# Altium integrated library ISSI SRAM Synchronous SRAM No-Wait(ZBT).IntLib: 1246 symbols (part 107 of 152)
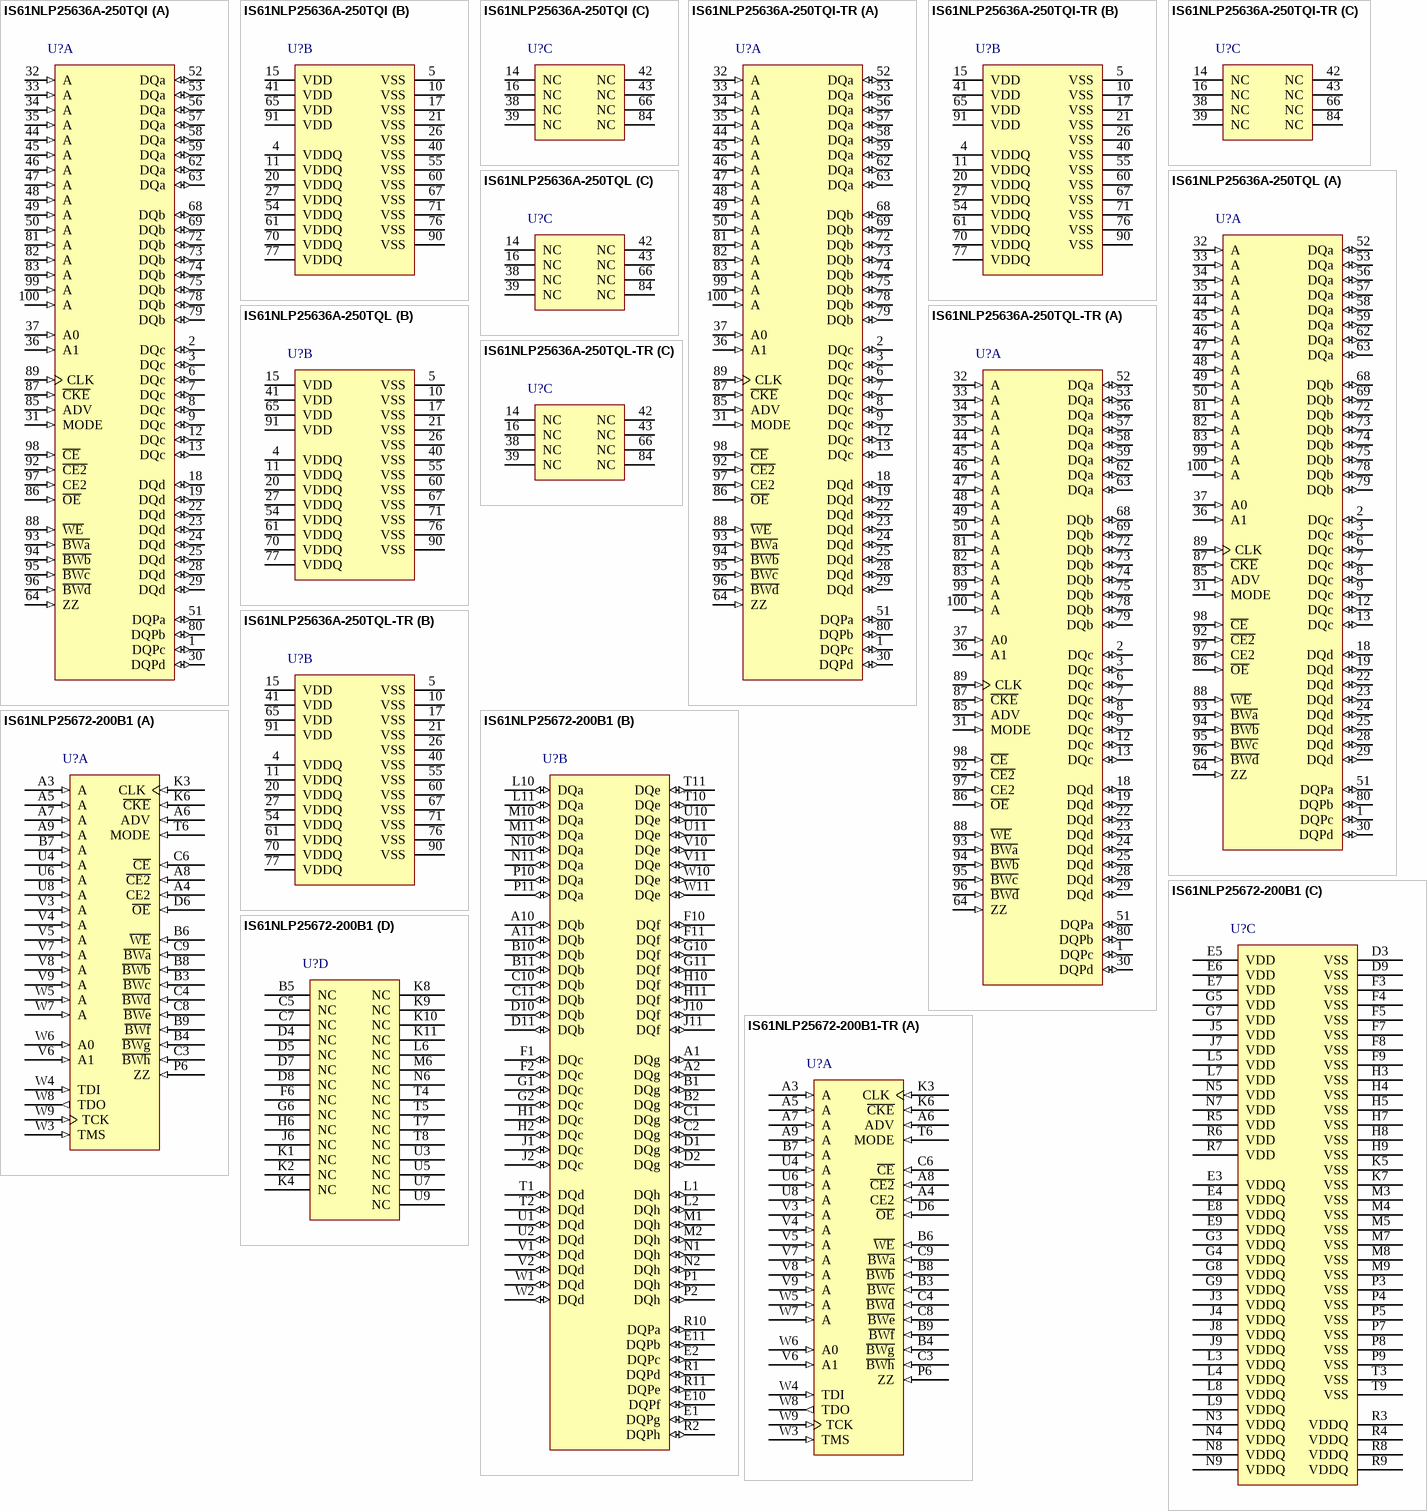
[diagram p292: symbols IS61NLP25636A-250TQI to IS61NLP25672-200B1-TR]

## IS61NLP25672-200B1
designator U?
18 M Pipeline 'No Wait' State Bus SRAM, 256 K x 72, 0 to 70 degC, 209-Pin BGA (LF-BGA-209); Manufacturer: Integrated Silicon Solution Inc (ISSI); PartNumber: IS61NLP25672-200B1; Density: 18M; Packing: Tube / Tray; Vcc: 3.3 V; VccQ: 2.5 / 3.3 V; DatasheetVersion: Rev. O; PackageVersion: Rev. B, 12/2007; PackageReference: LF-BGA-209; PackageDescription: 209-Pin 14 x 22 mm LF-BGA, Pitch 1 mm; Supplier 1: Digi-Key; Supplier Part Number 1: IS61NLP25672-200B1-ND; Supplier 2: Mouser; Supplier Part Number 2: 870IS61NLP25672200B1; Organization: 256Kx72; Mounting Technology: Surface Mount; ComponentLink1Description: Manufacturer URL; ComponentLink1URL: http://www.issi.com/US/index.shtml; ComponentLink2Description: Datasheet; ComponentLink2URL: http://www.issi.com/WW/pdf/61NLP_NVP25672_51236_102418.pdf; ComponentLink3Description: Package Specification; ComponentLink3URL: http://www.issi.com/WW/pdf/61NLF_NVF25672_51236_102418.pdf
footprint ISSI-LF-BGA-209-14000X22000DE (BGA, 209-Balls, Body 22x14mm, Pitch 1mm)
part A pins: A3 A (in) "Synchronous Address Input", A4 CE2 (in) "Synchronous Chip Enable", A5 A (in) "Synchronous Address Input", A6 ADV (in) "Synchronous Burst Address Advance", A7 A (in) "Synchronous Address Input", A8 ~{CE2} (in) "Synchronous Chip Enable", A9 A (in) "Synchronous Address Input", B3 ~{BWc} (in) "Synchronous Byte Write Enable", B4 ~{BWg} (in) "Synchronous Byte Write Enable", B6 ~{WE} (in) "Write Enable", B7 A (in) "Synchronous Address Input", B8 ~{BWb} (in) "Synchronous Byte Write Enable", B9 ~{BWf} (in) "Synchronous Byte Write Enable", C3 ~{BWh} (in) "Synchronous Byte Write Enable", C4 ~{BWd} (in) "Synchronous Byte Write Enable", C6 ~{CE} (in) "Synchronous Chip Enable", C8 ~{BWe} (in) "Synchronous Byte Write Enable", C9 ~{BWa} (in) "Synchronous Byte Write Enable", D6 ~{OE} (in) "Output Enable", K3 CLK (in) "Synchronous Clock", K6 ~{CKE} (in) "Clock Enable", P6 ZZ (in) "Snooze Enable", T6 MODE (in) "Burst Sequence Selection", U4 A (in) "Synchronous Address Input", U6 A (in) "Synchronous Address Input", U8 A (in) "Synchronous Address Input", V3 A (in) "Synchronous Address Input", V4 A (in) "Synchronous Address Input", V5 A (in) "Synchronous Address Input", V6 A1 (in) "Synchronous Address Input. This pin must tied to the two LSBs of the address bus.", V7 A (in) "Synchronous Address Input", V8 A (in) "Synchronous Address Input", V9 A (in) "Synchronous Address Input", W3 TMS (in) "JTAG Pin", W4 TDI (in) "JTAG Pin", W5 A (in) "Synchronous Address Input", W6 A0 (in) "Synchronous Address Input. This pin must tied to the two LSBs of the address bus.", W7 A (in) "Synchronous Address Input", W8 TDO (out) "JTAG Pin", W9 TCK (in) "JTAG Pin"
part B pins: A1 DQg (io) "Synchronous Data Input/Output", A2 DQg (io) "Synchronous Data Input/Output", A10 DQb (io) "Synchronous Data Input/Output", A11 DQb (io) "Synchronous Data Input/Output", B1 DQg (io) "Synchronous Data Input/Output", B2 DQg (io) "Synchronous Data Input/Output", B10 DQb (io) "Synchronous Data Input/Output", B11 DQb (io) "Synchronous Data Input/Output", C1 DQg (io) "Synchronous Data Input/Output", C2 DQg (io) "Synchronous Data Input/Output", C10 DQb (io) "Synchronous Data Input/Output", C11 DQb (io) "Synchronous Data Input/Output", D1 DQg (io) "Synchronous Data Input/Output", D2 DQg (io) "Synchronous Data Input/Output", D10 DQb (io) "Synchronous Data Input/Output", D11 DQb (io) "Synchronous Data Input/Output", E1 DQPg (io) "Parity Data I/O", E2 DQPc (io) "Parity Data I/O", E10 DQPf (io) "Parity Data I/O", E11 DQPb (io) "Parity Data I/O", F1 DQc (io) "Synchronous Data Input/Output", F2 DQc (io) "Synchronous Data Input/Output", F10 DQf (io) "Synchronous Data Input/Output", F11 DQf (io) "Synchronous Data Input/Output", G1 DQc (io) "Synchronous Data Input/Output", G2 DQc (io) "Synchronous Data Input/Output", G10 DQf (io) "Synchronous Data Input/Output", G11 DQf (io) "Synchronous Data Input/Output", H1 DQc (io) "Synchronous Data Input/Output", H2 DQc (io) "Synchronous Data Input/Output", H10 DQf (io) "Synchronous Data Input/Output", H11 DQf (io) "Synchronous Data Input/Output", J1 DQc (io) "Synchronous Data Input/Output", J2 DQc (io) "Synchronous Data Input/Output", J10 DQf (io) "Synchronous Data Input/Output", J11 DQf (io) "Synchronous Data Input/Output", L1 DQh (io) "Synchronous Data Input/Output", L2 DQh (io) "Synchronous Data Input/Output", L10 DQa (io) "Synchronous Data Input/Output", L11 DQa (io) "Synchronous Data Input/Output", M1 DQh (io) "Synchronous Data Input/Output", M2 DQh (io) "Synchronous Data Input/Output", M10 DQa (io) "Synchronous Data Input/Output", M11 DQa (io) "Synchronous Data Input/Output", N1 DQh (io) "Synchronous Data Input/Output", N2 DQh (io) "Synchronous Data Input/Output", N10 DQa (io) "Synchronous Data Input/Output", N11 DQa (io) "Synchronous Data Input/Output", P1 DQh (io) "Synchronous Data Input/Output", P2 DQh (io) "Synchronous Data Input/Output", P10 DQa (io) "Synchronous Data Input/Output", P11 DQa (io) "Synchronous Data Input/Output", R1 DQPd (io) "Parity Data I/O", R2 DQPh (io) "Parity Data I/O", R10 DQPa (io) "Parity Data I/O", R11 DQPe (io) "Parity Data I/O", T1 DQd (io) "Synchronous Data Input/Output", T2 DQd (io) "Synchronous Data Input/Output", T10 DQe (io) "Synchronous Data Input/Output", T11 DQe (io) "Synchronous Data Input/Output", U1 DQd (io) "Synchronous Data Input/Output", U2 DQd (io) "Synchronous Data Input/Output", U10 DQe (io) "Synchronous Data Input/Output", U11 DQe (io) "Synchronous Data Input/Output", V1 DQd (io) "Synchronous Data Input/Output", V2 DQd (io) "Synchronous Data Input/Output", V10 DQe (io) "Synchronous Data Input/Output", V11 DQe (io) "Synchronous Data Input/Output", W1 DQd (io) "Synchronous Data Input/Output", W2 DQd (io) "Synchronous Data Input/Output", W10 DQe (io) "Synchronous Data Input/Output", W11 DQe (io) "Synchronous Data Input/Output"
part C pins: D3 VSS (power) "Ground", D9 VSS (power) "Ground", E3 VDDQ (power) "Isolated Output Buffer Supply: 3.3V/2.5V", E4 VDDQ (power) "Isolated Output Buffer Supply: 3.3V/2.5V", E5 VDD (power) "3.3V/2.5V Power Supply", E6 VDD (power) "3.3V/2.5V Power Supply", E7 VDD (power) "3.3V/2.5V Power Supply", E8 VDDQ (power) "Isolated Output Buffer Supply: 3.3V/2.5V", E9 VDDQ (power) "Isolated Output Buffer Supply: 3.3V/2.5V", F3 VSS (power) "Ground", F4 VSS (power) "Ground", F5 VSS (power) "Ground", F7 VSS (power) "Ground", F8 VSS (power) "Ground", F9 VSS (power) "Ground", G3 VDDQ (power) "Isolated Output Buffer Supply: 3.3V/2.5V", G4 VDDQ (power) "Isolated Output Buffer Supply: 3.3V/2.5V", G5 VDD (power) "3.3V/2.5V Power Supply", G7 VDD (power) "3.3V/2.5V Power Supply", G8 VDDQ (power) "Isolated Output Buffer Supply: 3.3V/2.5V", G9 VDDQ (power) "Isolated Output Buffer Supply: 3.3V/2.5V", H3 VSS (power) "Ground", H4 VSS (power) "Ground", H5 VSS (power) "Ground", H7 VSS (power) "Ground", H8 VSS (power) "Ground", H9 VSS (power) "Ground", J3 VDDQ (power) "Isolated Output Buffer Supply: 3.3V/2.5V", J4 VDDQ (power) "Isolated Output Buffer Supply: 3.3V/2.5V", J5 VDD (power) "3.3V/2.5V Power Supply", J7 VDD (power) "3.3V/2.5V Power Supply", J8 VDDQ (power) "Isolated Output Buffer Supply: 3.3V/2.5V", J9 VDDQ (power) "Isolated Output Buffer Supply: 3.3V/2.5V", K5 VSS (power) "Ground", K7 VSS (power) "Ground", L3 VDDQ (power) "Isolated Output Buffer Supply: 3.3V/2.5V", L4 VDDQ (power) "Isolated Output Buffer Supply: 3.3V/2.5V", L5 VDD (power) "3.3V/2.5V Power Supply", L7 VDD (power) "3.3V/2.5V Power Supply", L8 VDDQ (power) "Isolated Output Buffer Supply: 3.3V/2.5V", L9 VDDQ (power) "Isolated Output Buffer Supply: 3.3V/2.5V", M3 VSS (power) "Ground", M4 VSS (power) "Ground", M5 VSS (power) "Ground", M7 VSS (power) "Ground", M8 VSS (power) "Ground", M9 VSS (power) "Ground", N3 VDDQ (power) "Isolated Output Buffer Supply: 3.3V/2.5V", N4 VDDQ (power) "Isolated Output Buffer Supply: 3.3V/2.5V", N5 VDD (power) "3.3V/2.5V Power Supply", N7 VDD (power) "3.3V/2.5V Power Supply", N8 VDDQ (power) "Isolated Output Buffer Supply: 3.3V/2.5V", N9 VDDQ (power) "Isolated Output Buffer Supply: 3.3V/2.5V", P3 VSS (power) "Ground", P4 VSS (power) "Ground", P5 VSS (power) "Ground", P7 VSS (power) "Ground", P8 VSS (power) "Ground", P9 VSS (power) "Ground", R3 VDDQ (power) "Isolated Output Buffer Supply: 3.3V/2.5V", R4 VDDQ (power) "Isolated Output Buffer Supply: 3.3V/2.5V", R5 VDD (power) "3.3V/2.5V Power Supply", R6 VDD (power) "3.3V/2.5V Power Supply", R7 VDD (power) "3.3V/2.5V Power Supply", R8 VDDQ (power) "Isolated Output Buffer Supply: 3.3V/2.5V", R9 VDDQ (power) "Isolated Output Buffer Supply: 3.3V/2.5V", T3 VSS (power) "Ground", T9 VSS (power) "Ground"
part D pins: B5 NC "not connect", C5 NC "not connect", C7 NC "not connect", D4 NC "not connect", D5 NC "not connect", D7 NC "not connect", D8 NC "not connect", F6 NC "not connect", G6 NC "not connect", H6 NC "not connect", J6 NC "not connect", K1 NC "not connect", K2 NC "not connect", K4 NC "not connect", K8 NC "not connect", K9 NC "not connect", K10 NC "not connect", K11 NC "not connect", L6 NC "not connect", M6 NC "not connect", N6 NC "not connect", T4 NC "not connect", T5 NC "not connect", T7 NC "not connect", T8 NC "not connect", U3 NC "not connect", U5 NC "not connect", U7 NC "not connect", U9 NC "not connect"

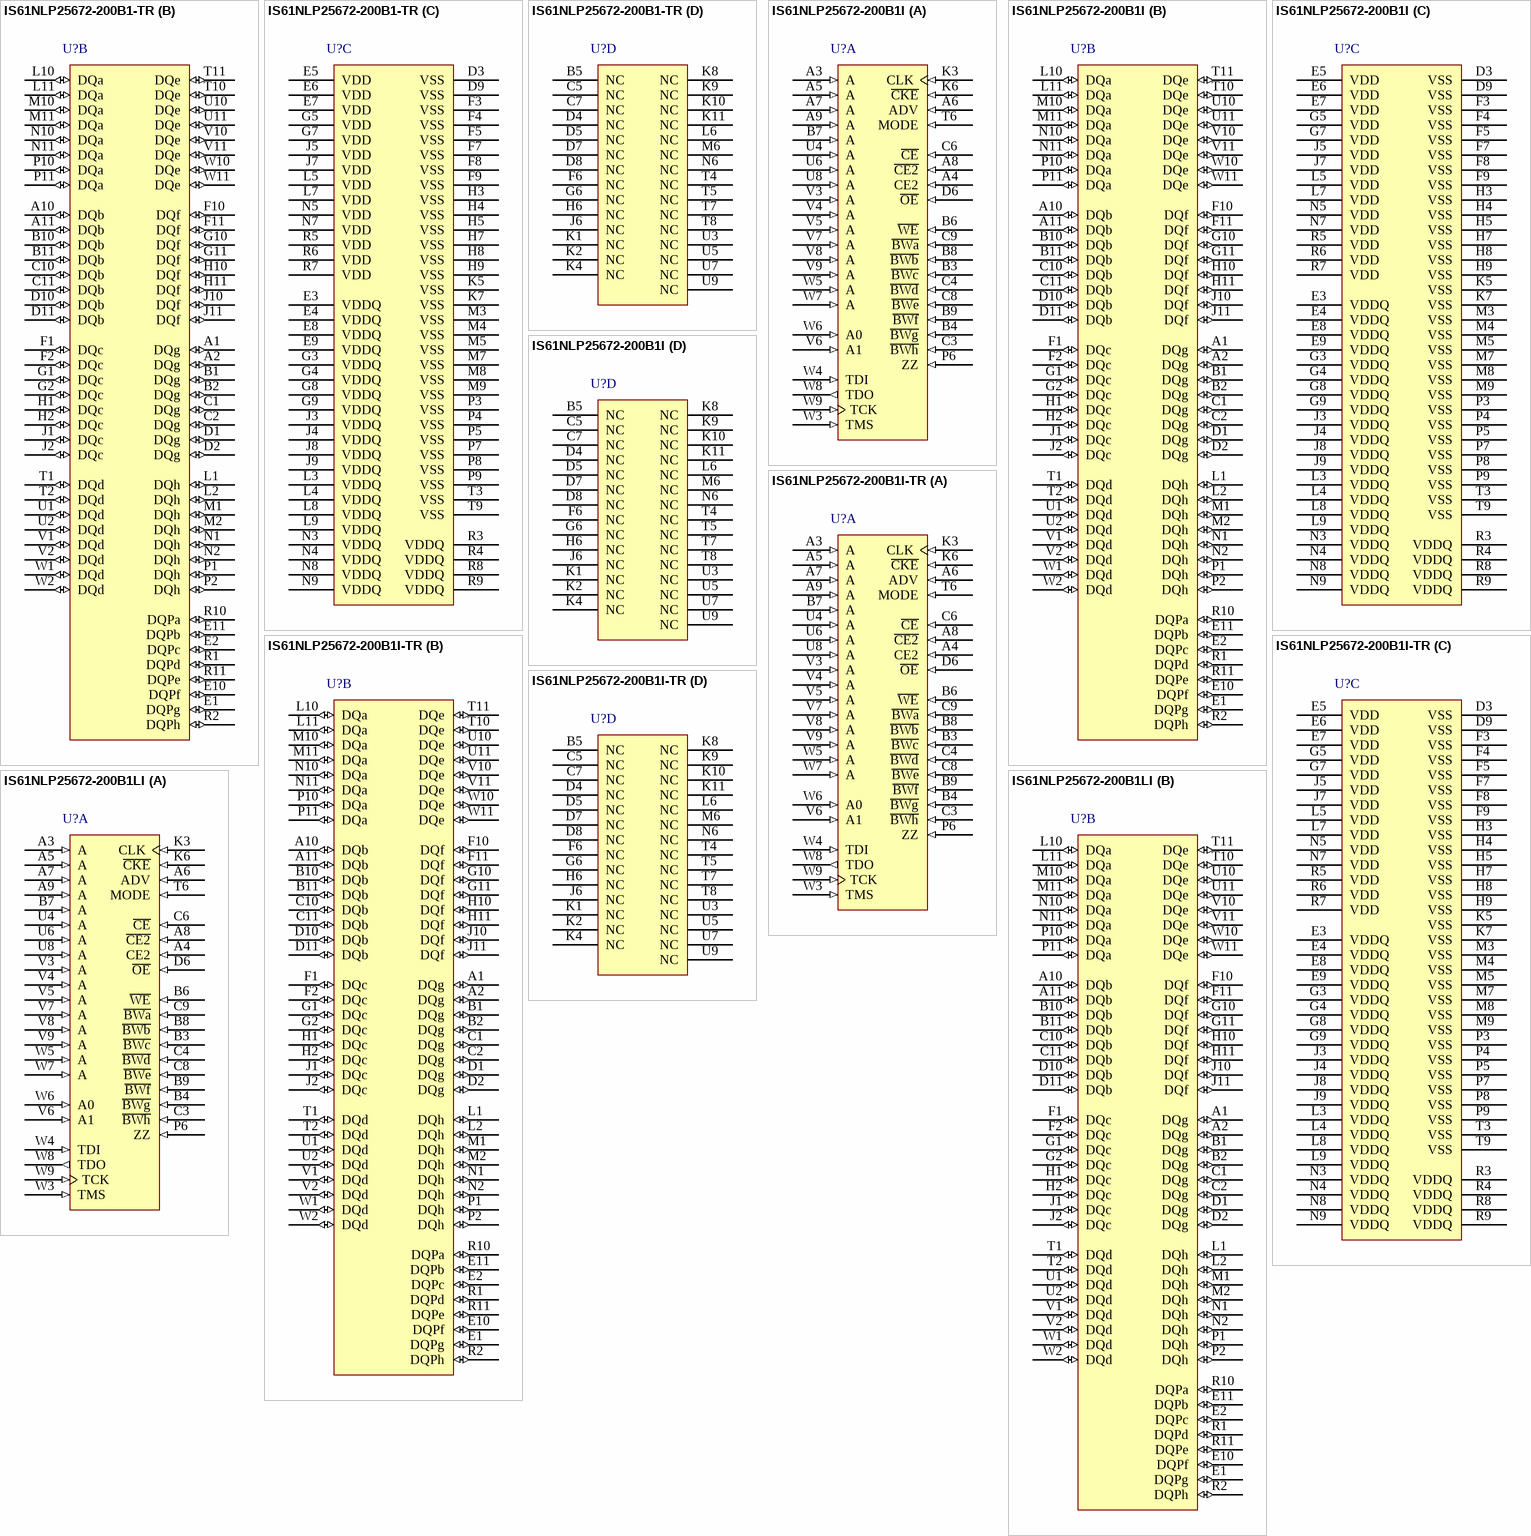
[diagram p106: symbols IS61NLP25672-200B1-TR to IS61NLP25672-200B1LI]

## IS61NLP25672-200B1-TR
designator U?
18 M Pipeline 'No Wait' State Bus SRAM, 256 K x 72, 0 to 70 degC, 209-Pin BGA (LF-BGA-209); Manufacturer: Integrated Silicon Solution Inc (ISSI); PartNumber: IS61NLP25672-200B1-TR; Density: 18M; Packing: Tape & Reel; Vcc: 3.3 V; VccQ: 2.5 / 3.3 V; DatasheetVersion: Rev. O; PackageVersion: Rev. B, 12/2007; PackageReference: LF-BGA-209; PackageDescription: 209-Pin 14 x 22 mm LF-BGA, Pitch 1 mm; Supplier 1: Digi-Key; Supplier Part Number 1: IS61NLP25672-200B1-TR-ND; Supplier 2: Mouser; Supplier Part Number 2: 87061NLP25672200B1T; Organization: 256Kx72; Mounting Technology: Surface Mount; ComponentLink1Description: Manufacturer URL; ComponentLink1URL: http://www.issi.com/US/index.shtml; ComponentLink2Description: Datasheet; ComponentLink2URL: http://www.issi.com/WW/pdf/61NLP_NVP25672_51236_102418.pdf; ComponentLink3Description: Package Specification; ComponentLink3URL: http://www.issi.com/WW/pdf/61NLF_NVF25672_51236_102418.pdf
footprint ISSI-LF-BGA-209-14000X22000DE (BGA, 209-Balls, Body 22x14mm, Pitch 1mm)
part A pins: A3 A (in) "Synchronous Address Input", A4 CE2 (in) "Synchronous Chip Enable", A5 A (in) "Synchronous Address Input", A6 ADV (in) "Synchronous Burst Address Advance", A7 A (in) "Synchronous Address Input", A8 ~{CE2} (in) "Synchronous Chip Enable", A9 A (in) "Synchronous Address Input", B3 ~{BWc} (in) "Synchronous Byte Write Enable", B4 ~{BWg} (in) "Synchronous Byte Write Enable", B6 ~{WE} (in) "Write Enable", B7 A (in) "Synchronous Address Input", B8 ~{BWb} (in) "Synchronous Byte Write Enable", B9 ~{BWf} (in) "Synchronous Byte Write Enable", C3 ~{BWh} (in) "Synchronous Byte Write Enable", C4 ~{BWd} (in) "Synchronous Byte Write Enable", C6 ~{CE} (in) "Synchronous Chip Enable", C8 ~{BWe} (in) "Synchronous Byte Write Enable", C9 ~{BWa} (in) "Synchronous Byte Write Enable", D6 ~{OE} (in) "Output Enable", K3 CLK (in) "Synchronous Clock", K6 ~{CKE} (in) "Clock Enable", P6 ZZ (in) "Snooze Enable", T6 MODE (in) "Burst Sequence Selection", U4 A (in) "Synchronous Address Input", U6 A (in) "Synchronous Address Input", U8 A (in) "Synchronous Address Input", V3 A (in) "Synchronous Address Input", V4 A (in) "Synchronous Address Input", V5 A (in) "Synchronous Address Input", V6 A1 (in) "Synchronous Address Input. This pin must tied to the two LSBs of the address bus.", V7 A (in) "Synchronous Address Input", V8 A (in) "Synchronous Address Input", V9 A (in) "Synchronous Address Input", W3 TMS (in) "JTAG Pin", W4 TDI (in) "JTAG Pin", W5 A (in) "Synchronous Address Input", W6 A0 (in) "Synchronous Address Input. This pin must tied to the two LSBs of the address bus.", W7 A (in) "Synchronous Address Input", W8 TDO (out) "JTAG Pin", W9 TCK (in) "JTAG Pin"
part B pins: A1 DQg (io) "Synchronous Data Input/Output", A2 DQg (io) "Synchronous Data Input/Output", A10 DQb (io) "Synchronous Data Input/Output", A11 DQb (io) "Synchronous Data Input/Output", B1 DQg (io) "Synchronous Data Input/Output", B2 DQg (io) "Synchronous Data Input/Output", B10 DQb (io) "Synchronous Data Input/Output", B11 DQb (io) "Synchronous Data Input/Output", C1 DQg (io) "Synchronous Data Input/Output", C2 DQg (io) "Synchronous Data Input/Output", C10 DQb (io) "Synchronous Data Input/Output", C11 DQb (io) "Synchronous Data Input/Output", D1 DQg (io) "Synchronous Data Input/Output", D2 DQg (io) "Synchronous Data Input/Output", D10 DQb (io) "Synchronous Data Input/Output", D11 DQb (io) "Synchronous Data Input/Output", E1 DQPg (io) "Parity Data I/O", E2 DQPc (io) "Parity Data I/O", E10 DQPf (io) "Parity Data I/O", E11 DQPb (io) "Parity Data I/O", F1 DQc (io) "Synchronous Data Input/Output", F2 DQc (io) "Synchronous Data Input/Output", F10 DQf (io) "Synchronous Data Input/Output", F11 DQf (io) "Synchronous Data Input/Output", G1 DQc (io) "Synchronous Data Input/Output", G2 DQc (io) "Synchronous Data Input/Output", G10 DQf (io) "Synchronous Data Input/Output", G11 DQf (io) "Synchronous Data Input/Output", H1 DQc (io) "Synchronous Data Input/Output", H2 DQc (io) "Synchronous Data Input/Output", H10 DQf (io) "Synchronous Data Input/Output", H11 DQf (io) "Synchronous Data Input/Output", J1 DQc (io) "Synchronous Data Input/Output", J2 DQc (io) "Synchronous Data Input/Output", J10 DQf (io) "Synchronous Data Input/Output", J11 DQf (io) "Synchronous Data Input/Output", L1 DQh (io) "Synchronous Data Input/Output", L2 DQh (io) "Synchronous Data Input/Output", L10 DQa (io) "Synchronous Data Input/Output", L11 DQa (io) "Synchronous Data Input/Output", M1 DQh (io) "Synchronous Data Input/Output", M2 DQh (io) "Synchronous Data Input/Output", M10 DQa (io) "Synchronous Data Input/Output", M11 DQa (io) "Synchronous Data Input/Output", N1 DQh (io) "Synchronous Data Input/Output", N2 DQh (io) "Synchronous Data Input/Output", N10 DQa (io) "Synchronous Data Input/Output", N11 DQa (io) "Synchronous Data Input/Output", P1 DQh (io) "Synchronous Data Input/Output", P2 DQh (io) "Synchronous Data Input/Output", P10 DQa (io) "Synchronous Data Input/Output", P11 DQa (io) "Synchronous Data Input/Output", R1 DQPd (io) "Parity Data I/O", R2 DQPh (io) "Parity Data I/O", R10 DQPa (io) "Parity Data I/O", R11 DQPe (io) "Parity Data I/O", T1 DQd (io) "Synchronous Data Input/Output", T2 DQd (io) "Synchronous Data Input/Output", T10 DQe (io) "Synchronous Data Input/Output", T11 DQe (io) "Synchronous Data Input/Output", U1 DQd (io) "Synchronous Data Input/Output", U2 DQd (io) "Synchronous Data Input/Output", U10 DQe (io) "Synchronous Data Input/Output", U11 DQe (io) "Synchronous Data Input/Output", V1 DQd (io) "Synchronous Data Input/Output", V2 DQd (io) "Synchronous Data Input/Output", V10 DQe (io) "Synchronous Data Input/Output", V11 DQe (io) "Synchronous Data Input/Output", W1 DQd (io) "Synchronous Data Input/Output", W2 DQd (io) "Synchronous Data Input/Output", W10 DQe (io) "Synchronous Data Input/Output", W11 DQe (io) "Synchronous Data Input/Output"
part C pins: D3 VSS (power) "Ground", D9 VSS (power) "Ground", E3 VDDQ (power) "Isolated Output Buffer Supply: 3.3V/2.5V", E4 VDDQ (power) "Isolated Output Buffer Supply: 3.3V/2.5V", E5 VDD (power) "3.3V/2.5V Power Supply", E6 VDD (power) "3.3V/2.5V Power Supply", E7 VDD (power) "3.3V/2.5V Power Supply", E8 VDDQ (power) "Isolated Output Buffer Supply: 3.3V/2.5V", E9 VDDQ (power) "Isolated Output Buffer Supply: 3.3V/2.5V", F3 VSS (power) "Ground", F4 VSS (power) "Ground", F5 VSS (power) "Ground", F7 VSS (power) "Ground", F8 VSS (power) "Ground", F9 VSS (power) "Ground", G3 VDDQ (power) "Isolated Output Buffer Supply: 3.3V/2.5V", G4 VDDQ (power) "Isolated Output Buffer Supply: 3.3V/2.5V", G5 VDD (power) "3.3V/2.5V Power Supply", G7 VDD (power) "3.3V/2.5V Power Supply", G8 VDDQ (power) "Isolated Output Buffer Supply: 3.3V/2.5V", G9 VDDQ (power) "Isolated Output Buffer Supply: 3.3V/2.5V", H3 VSS (power) "Ground", H4 VSS (power) "Ground", H5 VSS (power) "Ground", H7 VSS (power) "Ground", H8 VSS (power) "Ground", H9 VSS (power) "Ground", J3 VDDQ (power) "Isolated Output Buffer Supply: 3.3V/2.5V", J4 VDDQ (power) "Isolated Output Buffer Supply: 3.3V/2.5V", J5 VDD (power) "3.3V/2.5V Power Supply", J7 VDD (power) "3.3V/2.5V Power Supply", J8 VDDQ (power) "Isolated Output Buffer Supply: 3.3V/2.5V", J9 VDDQ (power) "Isolated Output Buffer Supply: 3.3V/2.5V", K5 VSS (power) "Ground", K7 VSS (power) "Ground", L3 VDDQ (power) "Isolated Output Buffer Supply: 3.3V/2.5V", L4 VDDQ (power) "Isolated Output Buffer Supply: 3.3V/2.5V", L5 VDD (power) "3.3V/2.5V Power Supply", L7 VDD (power) "3.3V/2.5V Power Supply", L8 VDDQ (power) "Isolated Output Buffer Supply: 3.3V/2.5V", L9 VDDQ (power) "Isolated Output Buffer Supply: 3.3V/2.5V", M3 VSS (power) "Ground", M4 VSS (power) "Ground", M5 VSS (power) "Ground", M7 VSS (power) "Ground", M8 VSS (power) "Ground", M9 VSS (power) "Ground", N3 VDDQ (power) "Isolated Output Buffer Supply: 3.3V/2.5V", N4 VDDQ (power) "Isolated Output Buffer Supply: 3.3V/2.5V", N5 VDD (power) "3.3V/2.5V Power Supply", N7 VDD (power) "3.3V/2.5V Power Supply", N8 VDDQ (power) "Isolated Output Buffer Supply: 3.3V/2.5V", N9 VDDQ (power) "Isolated Output Buffer Supply: 3.3V/2.5V", P3 VSS (power) "Ground", P4 VSS (power) "Ground", P5 VSS (power) "Ground", P7 VSS (power) "Ground", P8 VSS (power) "Ground", P9 VSS (power) "Ground", R3 VDDQ (power) "Isolated Output Buffer Supply: 3.3V/2.5V", R4 VDDQ (power) "Isolated Output Buffer Supply: 3.3V/2.5V", R5 VDD (power) "3.3V/2.5V Power Supply", R6 VDD (power) "3.3V/2.5V Power Supply", R7 VDD (power) "3.3V/2.5V Power Supply", R8 VDDQ (power) "Isolated Output Buffer Supply: 3.3V/2.5V", R9 VDDQ (power) "Isolated Output Buffer Supply: 3.3V/2.5V", T3 VSS (power) "Ground", T9 VSS (power) "Ground"
part D pins: B5 NC "not connect", C5 NC "not connect", C7 NC "not connect", D4 NC "not connect", D5 NC "not connect", D7 NC "not connect", D8 NC "not connect", F6 NC "not connect", G6 NC "not connect", H6 NC "not connect", J6 NC "not connect", K1 NC "not connect", K2 NC "not connect", K4 NC "not connect", K8 NC "not connect", K9 NC "not connect", K10 NC "not connect", K11 NC "not connect", L6 NC "not connect", M6 NC "not connect", N6 NC "not connect", T4 NC "not connect", T5 NC "not connect", T7 NC "not connect", T8 NC "not connect", U3 NC "not connect", U5 NC "not connect", U7 NC "not connect", U9 NC "not connect"

## IS61NLP25672-200B1I
designator U?
18 M Pipeline 'No Wait' State Bus SRAM, 256 K x 72, -40 to 85 degC, 209-Pin BGA (LF-BGA-209); Manufacturer: Integrated Silicon Solution Inc (ISSI); PartNumber: IS61NLP25672-200B1I; Density: 18M; Packing: Tube / Tray; Vcc: 3.3 V; VccQ: 2.5 / 3.3 V; DatasheetVersion: Rev. O; PackageVersion: Rev. B, 12/2007; PackageReference: LF-BGA-209; PackageDescription: 209-Pin 14 x 22 mm LF-BGA, Pitch 1 mm; Supplier 1: Mouser; Supplier Part Number 1: N/A; Organization: 256Kx72; Mounting Technology: Surface Mount; ComponentLink1Description: Manufacturer URL; ComponentLink1URL: http://www.issi.com/US/index.shtml; ComponentLink2Description: Datasheet; ComponentLink2URL: http://www.issi.com/WW/pdf/61NLP_NVP25672_51236_102418.pdf; ComponentLink3Description: Package Specification; ComponentLink3URL: http://www.issi.com/WW/pdf/61NLF_NVF25672_51236_102418.pdf
footprint ISSI-LF-BGA-209-14000X22000DE (BGA, 209-Balls, Body 22x14mm, Pitch 1mm)
part A pins: A3 A (in) "Synchronous Address Input", A4 CE2 (in) "Synchronous Chip Enable", A5 A (in) "Synchronous Address Input", A6 ADV (in) "Synchronous Burst Address Advance", A7 A (in) "Synchronous Address Input", A8 ~{CE2} (in) "Synchronous Chip Enable", A9 A (in) "Synchronous Address Input", B3 ~{BWc} (in) "Synchronous Byte Write Enable", B4 ~{BWg} (in) "Synchronous Byte Write Enable", B6 ~{WE} (in) "Write Enable", B7 A (in) "Synchronous Address Input", B8 ~{BWb} (in) "Synchronous Byte Write Enable", B9 ~{BWf} (in) "Synchronous Byte Write Enable", C3 ~{BWh} (in) "Synchronous Byte Write Enable", C4 ~{BWd} (in) "Synchronous Byte Write Enable", C6 ~{CE} (in) "Synchronous Chip Enable", C8 ~{BWe} (in) "Synchronous Byte Write Enable", C9 ~{BWa} (in) "Synchronous Byte Write Enable", D6 ~{OE} (in) "Output Enable", K3 CLK (in) "Synchronous Clock", K6 ~{CKE} (in) "Clock Enable", P6 ZZ (in) "Snooze Enable", T6 MODE (in) "Burst Sequence Selection", U4 A (in) "Synchronous Address Input", U6 A (in) "Synchronous Address Input", U8 A (in) "Synchronous Address Input", V3 A (in) "Synchronous Address Input", V4 A (in) "Synchronous Address Input", V5 A (in) "Synchronous Address Input", V6 A1 (in) "Synchronous Address Input. This pin must tied to the two LSBs of the address bus.", V7 A (in) "Synchronous Address Input", V8 A (in) "Synchronous Address Input", V9 A (in) "Synchronous Address Input", W3 TMS (in) "JTAG Pin", W4 TDI (in) "JTAG Pin", W5 A (in) "Synchronous Address Input", W6 A0 (in) "Synchronous Address Input. This pin must tied to the two LSBs of the address bus.", W7 A (in) "Synchronous Address Input", W8 TDO (out) "JTAG Pin", W9 TCK (in) "JTAG Pin"
part B pins: A1 DQg (io) "Synchronous Data Input/Output", A2 DQg (io) "Synchronous Data Input/Output", A10 DQb (io) "Synchronous Data Input/Output", A11 DQb (io) "Synchronous Data Input/Output", B1 DQg (io) "Synchronous Data Input/Output", B2 DQg (io) "Synchronous Data Input/Output", B10 DQb (io) "Synchronous Data Input/Output", B11 DQb (io) "Synchronous Data Input/Output", C1 DQg (io) "Synchronous Data Input/Output", C2 DQg (io) "Synchronous Data Input/Output", C10 DQb (io) "Synchronous Data Input/Output", C11 DQb (io) "Synchronous Data Input/Output", D1 DQg (io) "Synchronous Data Input/Output", D2 DQg (io) "Synchronous Data Input/Output", D10 DQb (io) "Synchronous Data Input/Output", D11 DQb (io) "Synchronous Data Input/Output", E1 DQPg (io) "Parity Data I/O", E2 DQPc (io) "Parity Data I/O", E10 DQPf (io) "Parity Data I/O", E11 DQPb (io) "Parity Data I/O", F1 DQc (io) "Synchronous Data Input/Output", F2 DQc (io) "Synchronous Data Input/Output", F10 DQf (io) "Synchronous Data Input/Output", F11 DQf (io) "Synchronous Data Input/Output", G1 DQc (io) "Synchronous Data Input/Output", G2 DQc (io) "Synchronous Data Input/Output", G10 DQf (io) "Synchronous Data Input/Output", G11 DQf (io) "Synchronous Data Input/Output", H1 DQc (io) "Synchronous Data Input/Output", H2 DQc (io) "Synchronous Data Input/Output", H10 DQf (io) "Synchronous Data Input/Output", H11 DQf (io) "Synchronous Data Input/Output", J1 DQc (io) "Synchronous Data Input/Output", J2 DQc (io) "Synchronous Data Input/Output", J10 DQf (io) "Synchronous Data Input/Output", J11 DQf (io) "Synchronous Data Input/Output", L1 DQh (io) "Synchronous Data Input/Output", L2 DQh (io) "Synchronous Data Input/Output", L10 DQa (io) "Synchronous Data Input/Output", L11 DQa (io) "Synchronous Data Input/Output", M1 DQh (io) "Synchronous Data Input/Output", M2 DQh (io) "Synchronous Data Input/Output", M10 DQa (io) "Synchronous Data Input/Output", M11 DQa (io) "Synchronous Data Input/Output", N1 DQh (io) "Synchronous Data Input/Output", N2 DQh (io) "Synchronous Data Input/Output", N10 DQa (io) "Synchronous Data Input/Output", N11 DQa (io) "Synchronous Data Input/Output", P1 DQh (io) "Synchronous Data Input/Output", P2 DQh (io) "Synchronous Data Input/Output", P10 DQa (io) "Synchronous Data Input/Output", P11 DQa (io) "Synchronous Data Input/Output", R1 DQPd (io) "Parity Data I/O", R2 DQPh (io) "Parity Data I/O", R10 DQPa (io) "Parity Data I/O", R11 DQPe (io) "Parity Data I/O", T1 DQd (io) "Synchronous Data Input/Output", T2 DQd (io) "Synchronous Data Input/Output", T10 DQe (io) "Synchronous Data Input/Output", T11 DQe (io) "Synchronous Data Input/Output", U1 DQd (io) "Synchronous Data Input/Output", U2 DQd (io) "Synchronous Data Input/Output", U10 DQe (io) "Synchronous Data Input/Output", U11 DQe (io) "Synchronous Data Input/Output", V1 DQd (io) "Synchronous Data Input/Output", V2 DQd (io) "Synchronous Data Input/Output", V10 DQe (io) "Synchronous Data Input/Output", V11 DQe (io) "Synchronous Data Input/Output", W1 DQd (io) "Synchronous Data Input/Output", W2 DQd (io) "Synchronous Data Input/Output", W10 DQe (io) "Synchronous Data Input/Output", W11 DQe (io) "Synchronous Data Input/Output"
part C pins: D3 VSS (power) "Ground", D9 VSS (power) "Ground", E3 VDDQ (power) "Isolated Output Buffer Supply: 3.3V/2.5V", E4 VDDQ (power) "Isolated Output Buffer Supply: 3.3V/2.5V", E5 VDD (power) "3.3V/2.5V Power Supply", E6 VDD (power) "3.3V/2.5V Power Supply", E7 VDD (power) "3.3V/2.5V Power Supply", E8 VDDQ (power) "Isolated Output Buffer Supply: 3.3V/2.5V", E9 VDDQ (power) "Isolated Output Buffer Supply: 3.3V/2.5V", F3 VSS (power) "Ground", F4 VSS (power) "Ground", F5 VSS (power) "Ground", F7 VSS (power) "Ground", F8 VSS (power) "Ground", F9 VSS (power) "Ground", G3 VDDQ (power) "Isolated Output Buffer Supply: 3.3V/2.5V", G4 VDDQ (power) "Isolated Output Buffer Supply: 3.3V/2.5V", G5 VDD (power) "3.3V/2.5V Power Supply", G7 VDD (power) "3.3V/2.5V Power Supply", G8 VDDQ (power) "Isolated Output Buffer Supply: 3.3V/2.5V", G9 VDDQ (power) "Isolated Output Buffer Supply: 3.3V/2.5V", H3 VSS (power) "Ground", H4 VSS (power) "Ground", H5 VSS (power) "Ground", H7 VSS (power) "Ground", H8 VSS (power) "Ground", H9 VSS (power) "Ground", J3 VDDQ (power) "Isolated Output Buffer Supply: 3.3V/2.5V", J4 VDDQ (power) "Isolated Output Buffer Supply: 3.3V/2.5V", J5 VDD (power) "3.3V/2.5V Power Supply", J7 VDD (power) "3.3V/2.5V Power Supply", J8 VDDQ (power) "Isolated Output Buffer Supply: 3.3V/2.5V", J9 VDDQ (power) "Isolated Output Buffer Supply: 3.3V/2.5V", K5 VSS (power) "Ground", K7 VSS (power) "Ground", L3 VDDQ (power) "Isolated Output Buffer Supply: 3.3V/2.5V", L4 VDDQ (power) "Isolated Output Buffer Supply: 3.3V/2.5V", L5 VDD (power) "3.3V/2.5V Power Supply", L7 VDD (power) "3.3V/2.5V Power Supply", L8 VDDQ (power) "Isolated Output Buffer Supply: 3.3V/2.5V", L9 VDDQ (power) "Isolated Output Buffer Supply: 3.3V/2.5V", M3 VSS (power) "Ground", M4 VSS (power) "Ground", M5 VSS (power) "Ground", M7 VSS (power) "Ground", M8 VSS (power) "Ground", M9 VSS (power) "Ground", N3 VDDQ (power) "Isolated Output Buffer Supply: 3.3V/2.5V", N4 VDDQ (power) "Isolated Output Buffer Supply: 3.3V/2.5V", N5 VDD (power) "3.3V/2.5V Power Supply", N7 VDD (power) "3.3V/2.5V Power Supply", N8 VDDQ (power) "Isolated Output Buffer Supply: 3.3V/2.5V", N9 VDDQ (power) "Isolated Output Buffer Supply: 3.3V/2.5V", P3 VSS (power) "Ground", P4 VSS (power) "Ground", P5 VSS (power) "Ground", P7 VSS (power) "Ground", P8 VSS (power) "Ground", P9 VSS (power) "Ground", R3 VDDQ (power) "Isolated Output Buffer Supply: 3.3V/2.5V", R4 VDDQ (power) "Isolated Output Buffer Supply: 3.3V/2.5V", R5 VDD (power) "3.3V/2.5V Power Supply", R6 VDD (power) "3.3V/2.5V Power Supply", R7 VDD (power) "3.3V/2.5V Power Supply", R8 VDDQ (power) "Isolated Output Buffer Supply: 3.3V/2.5V", R9 VDDQ (power) "Isolated Output Buffer Supply: 3.3V/2.5V", T3 VSS (power) "Ground", T9 VSS (power) "Ground"
part D pins: B5 NC "not connect", C5 NC "not connect", C7 NC "not connect", D4 NC "not connect", D5 NC "not connect", D7 NC "not connect", D8 NC "not connect", F6 NC "not connect", G6 NC "not connect", H6 NC "not connect", J6 NC "not connect", K1 NC "not connect", K2 NC "not connect", K4 NC "not connect", K8 NC "not connect", K9 NC "not connect", K10 NC "not connect", K11 NC "not connect", L6 NC "not connect", M6 NC "not connect", N6 NC "not connect", T4 NC "not connect", T5 NC "not connect", T7 NC "not connect", T8 NC "not connect", U3 NC "not connect", U5 NC "not connect", U7 NC "not connect", U9 NC "not connect"

## IS61NLP25672-200B1I-TR
designator U?
18 M Pipeline 'No Wait' State Bus SRAM, 256 K x 72, -40 to 85 degC, 209-Pin BGA (LF-BGA-209); Manufacturer: Integrated Silicon Solution Inc (ISSI); PartNumber: IS61NLP25672-200B1I-TR; Density: 18M; Packing: Tape & Reel; Vcc: 3.3 V; VccQ: 2.5 / 3.3 V; DatasheetVersion: Rev. O; PackageVersion: Rev. B, 12/2007; PackageReference: LF-BGA-209; PackageDescription: 209-Pin 14 x 22 mm LF-BGA, Pitch 1 mm; Supplier 1: Mouser; Supplier Part Number 1: N/A; Organization: 256Kx72; Mounting Technology: Surface Mount; ComponentLink1Description: Manufacturer URL; ComponentLink1URL: http://www.issi.com/US/index.shtml; ComponentLink2Description: Datasheet; ComponentLink2URL: http://www.issi.com/WW/pdf/61NLP_NVP25672_51236_102418.pdf; ComponentLink3Description: Package Specification; ComponentLink3URL: http://www.issi.com/WW/pdf/61NLF_NVF25672_51236_102418.pdf
footprint ISSI-LF-BGA-209-14000X22000DE (BGA, 209-Balls, Body 22x14mm, Pitch 1mm)
part A pins: A3 A (in) "Synchronous Address Input", A4 CE2 (in) "Synchronous Chip Enable", A5 A (in) "Synchronous Address Input", A6 ADV (in) "Synchronous Burst Address Advance", A7 A (in) "Synchronous Address Input", A8 ~{CE2} (in) "Synchronous Chip Enable", A9 A (in) "Synchronous Address Input", B3 ~{BWc} (in) "Synchronous Byte Write Enable", B4 ~{BWg} (in) "Synchronous Byte Write Enable", B6 ~{WE} (in) "Write Enable", B7 A (in) "Synchronous Address Input", B8 ~{BWb} (in) "Synchronous Byte Write Enable", B9 ~{BWf} (in) "Synchronous Byte Write Enable", C3 ~{BWh} (in) "Synchronous Byte Write Enable", C4 ~{BWd} (in) "Synchronous Byte Write Enable", C6 ~{CE} (in) "Synchronous Chip Enable", C8 ~{BWe} (in) "Synchronous Byte Write Enable", C9 ~{BWa} (in) "Synchronous Byte Write Enable", D6 ~{OE} (in) "Output Enable", K3 CLK (in) "Synchronous Clock", K6 ~{CKE} (in) "Clock Enable", P6 ZZ (in) "Snooze Enable", T6 MODE (in) "Burst Sequence Selection", U4 A (in) "Synchronous Address Input", U6 A (in) "Synchronous Address Input", U8 A (in) "Synchronous Address Input", V3 A (in) "Synchronous Address Input", V4 A (in) "Synchronous Address Input", V5 A (in) "Synchronous Address Input", V6 A1 (in) "Synchronous Address Input. This pin must tied to the two LSBs of the address bus.", V7 A (in) "Synchronous Address Input", V8 A (in) "Synchronous Address Input", V9 A (in) "Synchronous Address Input", W3 TMS (in) "JTAG Pin", W4 TDI (in) "JTAG Pin", W5 A (in) "Synchronous Address Input", W6 A0 (in) "Synchronous Address Input. This pin must tied to the two LSBs of the address bus.", W7 A (in) "Synchronous Address Input", W8 TDO (out) "JTAG Pin", W9 TCK (in) "JTAG Pin"
part B pins: A1 DQg (io) "Synchronous Data Input/Output", A2 DQg (io) "Synchronous Data Input/Output", A10 DQb (io) "Synchronous Data Input/Output", A11 DQb (io) "Synchronous Data Input/Output", B1 DQg (io) "Synchronous Data Input/Output", B2 DQg (io) "Synchronous Data Input/Output", B10 DQb (io) "Synchronous Data Input/Output", B11 DQb (io) "Synchronous Data Input/Output", C1 DQg (io) "Synchronous Data Input/Output", C2 DQg (io) "Synchronous Data Input/Output", C10 DQb (io) "Synchronous Data Input/Output", C11 DQb (io) "Synchronous Data Input/Output", D1 DQg (io) "Synchronous Data Input/Output", D2 DQg (io) "Synchronous Data Input/Output", D10 DQb (io) "Synchronous Data Input/Output", D11 DQb (io) "Synchronous Data Input/Output", E1 DQPg (io) "Parity Data I/O", E2 DQPc (io) "Parity Data I/O", E10 DQPf (io) "Parity Data I/O", E11 DQPb (io) "Parity Data I/O", F1 DQc (io) "Synchronous Data Input/Output", F2 DQc (io) "Synchronous Data Input/Output", F10 DQf (io) "Synchronous Data Input/Output", F11 DQf (io) "Synchronous Data Input/Output", G1 DQc (io) "Synchronous Data Input/Output", G2 DQc (io) "Synchronous Data Input/Output", G10 DQf (io) "Synchronous Data Input/Output", G11 DQf (io) "Synchronous Data Input/Output", H1 DQc (io) "Synchronous Data Input/Output", H2 DQc (io) "Synchronous Data Input/Output", H10 DQf (io) "Synchronous Data Input/Output", H11 DQf (io) "Synchronous Data Input/Output", J1 DQc (io) "Synchronous Data Input/Output", J2 DQc (io) "Synchronous Data Input/Output", J10 DQf (io) "Synchronous Data Input/Output", J11 DQf (io) "Synchronous Data Input/Output", L1 DQh (io) "Synchronous Data Input/Output", L2 DQh (io) "Synchronous Data Input/Output", L10 DQa (io) "Synchronous Data Input/Output", L11 DQa (io) "Synchronous Data Input/Output", M1 DQh (io) "Synchronous Data Input/Output", M2 DQh (io) "Synchronous Data Input/Output", M10 DQa (io) "Synchronous Data Input/Output", M11 DQa (io) "Synchronous Data Input/Output", N1 DQh (io) "Synchronous Data Input/Output", N2 DQh (io) "Synchronous Data Input/Output", N10 DQa (io) "Synchronous Data Input/Output", N11 DQa (io) "Synchronous Data Input/Output", P1 DQh (io) "Synchronous Data Input/Output", P2 DQh (io) "Synchronous Data Input/Output", P10 DQa (io) "Synchronous Data Input/Output", P11 DQa (io) "Synchronous Data Input/Output", R1 DQPd (io) "Parity Data I/O", R2 DQPh (io) "Parity Data I/O", R10 DQPa (io) "Parity Data I/O", R11 DQPe (io) "Parity Data I/O", T1 DQd (io) "Synchronous Data Input/Output", T2 DQd (io) "Synchronous Data Input/Output", T10 DQe (io) "Synchronous Data Input/Output", T11 DQe (io) "Synchronous Data Input/Output", U1 DQd (io) "Synchronous Data Input/Output", U2 DQd (io) "Synchronous Data Input/Output", U10 DQe (io) "Synchronous Data Input/Output", U11 DQe (io) "Synchronous Data Input/Output", V1 DQd (io) "Synchronous Data Input/Output", V2 DQd (io) "Synchronous Data Input/Output", V10 DQe (io) "Synchronous Data Input/Output", V11 DQe (io) "Synchronous Data Input/Output", W1 DQd (io) "Synchronous Data Input/Output", W2 DQd (io) "Synchronous Data Input/Output", W10 DQe (io) "Synchronous Data Input/Output", W11 DQe (io) "Synchronous Data Input/Output"
part C pins: D3 VSS (power) "Ground", D9 VSS (power) "Ground", E3 VDDQ (power) "Isolated Output Buffer Supply: 3.3V/2.5V", E4 VDDQ (power) "Isolated Output Buffer Supply: 3.3V/2.5V", E5 VDD (power) "3.3V/2.5V Power Supply", E6 VDD (power) "3.3V/2.5V Power Supply", E7 VDD (power) "3.3V/2.5V Power Supply", E8 VDDQ (power) "Isolated Output Buffer Supply: 3.3V/2.5V", E9 VDDQ (power) "Isolated Output Buffer Supply: 3.3V/2.5V", F3 VSS (power) "Ground", F4 VSS (power) "Ground", F5 VSS (power) "Ground", F7 VSS (power) "Ground", F8 VSS (power) "Ground", F9 VSS (power) "Ground", G3 VDDQ (power) "Isolated Output Buffer Supply: 3.3V/2.5V", G4 VDDQ (power) "Isolated Output Buffer Supply: 3.3V/2.5V", G5 VDD (power) "3.3V/2.5V Power Supply", G7 VDD (power) "3.3V/2.5V Power Supply", G8 VDDQ (power) "Isolated Output Buffer Supply: 3.3V/2.5V", G9 VDDQ (power) "Isolated Output Buffer Supply: 3.3V/2.5V", H3 VSS (power) "Ground", H4 VSS (power) "Ground", H5 VSS (power) "Ground", H7 VSS (power) "Ground", H8 VSS (power) "Ground", H9 VSS (power) "Ground", J3 VDDQ (power) "Isolated Output Buffer Supply: 3.3V/2.5V", J4 VDDQ (power) "Isolated Output Buffer Supply: 3.3V/2.5V", J5 VDD (power) "3.3V/2.5V Power Supply", J7 VDD (power) "3.3V/2.5V Power Supply", J8 VDDQ (power) "Isolated Output Buffer Supply: 3.3V/2.5V", J9 VDDQ (power) "Isolated Output Buffer Supply: 3.3V/2.5V", K5 VSS (power) "Ground", K7 VSS (power) "Ground", L3 VDDQ (power) "Isolated Output Buffer Supply: 3.3V/2.5V", L4 VDDQ (power) "Isolated Output Buffer Supply: 3.3V/2.5V", L5 VDD (power) "3.3V/2.5V Power Supply", L7 VDD (power) "3.3V/2.5V Power Supply", L8 VDDQ (power) "Isolated Output Buffer Supply: 3.3V/2.5V", L9 VDDQ (power) "Isolated Output Buffer Supply: 3.3V/2.5V", M3 VSS (power) "Ground", M4 VSS (power) "Ground", M5 VSS (power) "Ground", M7 VSS (power) "Ground", M8 VSS (power) "Ground", M9 VSS (power) "Ground", N3 VDDQ (power) "Isolated Output Buffer Supply: 3.3V/2.5V", N4 VDDQ (power) "Isolated Output Buffer Supply: 3.3V/2.5V", N5 VDD (power) "3.3V/2.5V Power Supply", N7 VDD (power) "3.3V/2.5V Power Supply", N8 VDDQ (power) "Isolated Output Buffer Supply: 3.3V/2.5V", N9 VDDQ (power) "Isolated Output Buffer Supply: 3.3V/2.5V", P3 VSS (power) "Ground", P4 VSS (power) "Ground", P5 VSS (power) "Ground", P7 VSS (power) "Ground", P8 VSS (power) "Ground", P9 VSS (power) "Ground", R3 VDDQ (power) "Isolated Output Buffer Supply: 3.3V/2.5V", R4 VDDQ (power) "Isolated Output Buffer Supply: 3.3V/2.5V", R5 VDD (power) "3.3V/2.5V Power Supply", R6 VDD (power) "3.3V/2.5V Power Supply", R7 VDD (power) "3.3V/2.5V Power Supply", R8 VDDQ (power) "Isolated Output Buffer Supply: 3.3V/2.5V", R9 VDDQ (power) "Isolated Output Buffer Supply: 3.3V/2.5V", T3 VSS (power) "Ground", T9 VSS (power) "Ground"
part D pins: B5 NC "not connect", C5 NC "not connect", C7 NC "not connect", D4 NC "not connect", D5 NC "not connect", D7 NC "not connect", D8 NC "not connect", F6 NC "not connect", G6 NC "not connect", H6 NC "not connect", J6 NC "not connect", K1 NC "not connect", K2 NC "not connect", K4 NC "not connect", K8 NC "not connect", K9 NC "not connect", K10 NC "not connect", K11 NC "not connect", L6 NC "not connect", M6 NC "not connect", N6 NC "not connect", T4 NC "not connect", T5 NC "not connect", T7 NC "not connect", T8 NC "not connect", U3 NC "not connect", U5 NC "not connect", U7 NC "not connect", U9 NC "not connect"

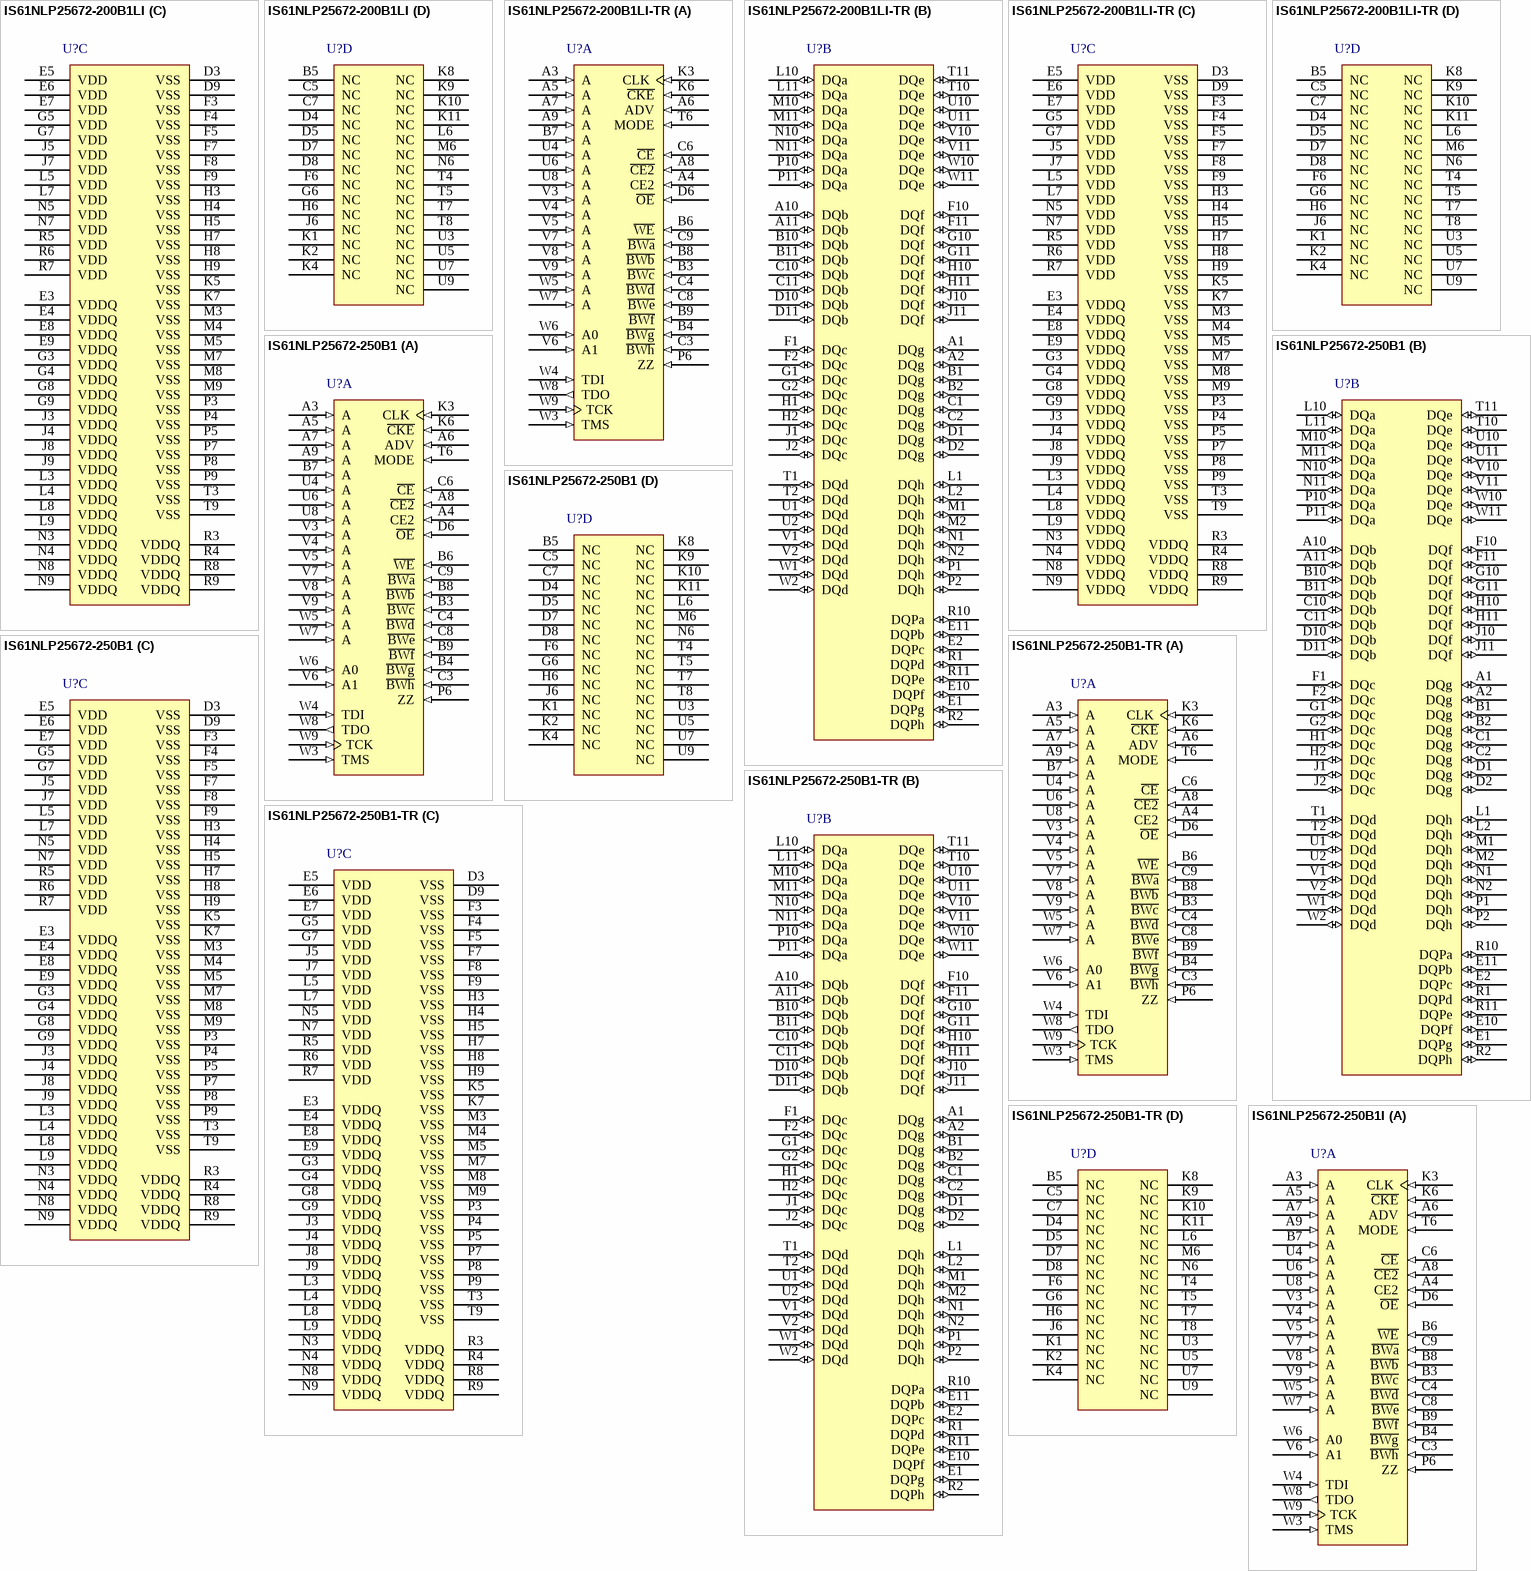
[diagram p107: symbols IS61NLP25672-200B1LI to IS61NLP25672-250B1I]

## IS61NLP25672-200B1LI
designator U?
18 M Pipeline 'No Wait' State Bus SRAM, 256 K x 72, -40 to 85 degC, 209-Pin BGA (LF-BGA-209), Pb-Free; Manufacturer: Integrated Silicon Solution Inc (ISSI); PartNumber: IS61NLP25672-200B1LI; Density: 18M; Packing: Tube / Tray; Vcc: 3.3 V; VccQ: 2.5 / 3.3 V; DatasheetVersion: Rev. O; PackageVersion: Rev. B, 12/2007; PackageReference: LF-BGA-209; PackageDescription: 209-Pin 14 x 22 mm LF-BGA, Pitch 1 mm; Supplier 1: Digi-Key; Supplier Part Number 1: IS61NLP25672-200B1LI-ND; Supplier 2: Newark; Supplier Part Number 2: 58M0535; Supplier 3: Mouser; Supplier Part Number 3: 870-61NLP256722B1LI; Organization: 256Kx72; RoHS: Pb-Free; Mounting Technology: Surface Mount; ComponentLink1Description: Manufacturer URL; ComponentLink1URL: http://www.issi.com/US/index.shtml; ComponentLink2Description: Datasheet; ComponentLink2URL: http://www.issi.com/WW/pdf/61NLP_NVP25672_51236_102418.pdf; ComponentLink3Description: Package Specification; ComponentLink3URL: http://www.issi.com/WW/pdf/61NLF_NVF25672_51236_102418.pdf
footprint ISSI-LF-BGA-209-14000X22000DE (BGA, 209-Balls, Body 22x14mm, Pitch 1mm)
part A pins: A3 A (in) "Synchronous Address Input", A4 CE2 (in) "Synchronous Chip Enable", A5 A (in) "Synchronous Address Input", A6 ADV (in) "Synchronous Burst Address Advance", A7 A (in) "Synchronous Address Input", A8 ~{CE2} (in) "Synchronous Chip Enable", A9 A (in) "Synchronous Address Input", B3 ~{BWc} (in) "Synchronous Byte Write Enable", B4 ~{BWg} (in) "Synchronous Byte Write Enable", B6 ~{WE} (in) "Write Enable", B7 A (in) "Synchronous Address Input", B8 ~{BWb} (in) "Synchronous Byte Write Enable", B9 ~{BWf} (in) "Synchronous Byte Write Enable", C3 ~{BWh} (in) "Synchronous Byte Write Enable", C4 ~{BWd} (in) "Synchronous Byte Write Enable", C6 ~{CE} (in) "Synchronous Chip Enable", C8 ~{BWe} (in) "Synchronous Byte Write Enable", C9 ~{BWa} (in) "Synchronous Byte Write Enable", D6 ~{OE} (in) "Output Enable", K3 CLK (in) "Synchronous Clock", K6 ~{CKE} (in) "Clock Enable", P6 ZZ (in) "Snooze Enable", T6 MODE (in) "Burst Sequence Selection", U4 A (in) "Synchronous Address Input", U6 A (in) "Synchronous Address Input", U8 A (in) "Synchronous Address Input", V3 A (in) "Synchronous Address Input", V4 A (in) "Synchronous Address Input", V5 A (in) "Synchronous Address Input", V6 A1 (in) "Synchronous Address Input. This pin must tied to the two LSBs of the address bus.", V7 A (in) "Synchronous Address Input", V8 A (in) "Synchronous Address Input", V9 A (in) "Synchronous Address Input", W3 TMS (in) "JTAG Pin", W4 TDI (in) "JTAG Pin", W5 A (in) "Synchronous Address Input", W6 A0 (in) "Synchronous Address Input. This pin must tied to the two LSBs of the address bus.", W7 A (in) "Synchronous Address Input", W8 TDO (out) "JTAG Pin", W9 TCK (in) "JTAG Pin"
part B pins: A1 DQg (io) "Synchronous Data Input/Output", A2 DQg (io) "Synchronous Data Input/Output", A10 DQb (io) "Synchronous Data Input/Output", A11 DQb (io) "Synchronous Data Input/Output", B1 DQg (io) "Synchronous Data Input/Output", B2 DQg (io) "Synchronous Data Input/Output", B10 DQb (io) "Synchronous Data Input/Output", B11 DQb (io) "Synchronous Data Input/Output", C1 DQg (io) "Synchronous Data Input/Output", C2 DQg (io) "Synchronous Data Input/Output", C10 DQb (io) "Synchronous Data Input/Output", C11 DQb (io) "Synchronous Data Input/Output", D1 DQg (io) "Synchronous Data Input/Output", D2 DQg (io) "Synchronous Data Input/Output", D10 DQb (io) "Synchronous Data Input/Output", D11 DQb (io) "Synchronous Data Input/Output", E1 DQPg (io) "Parity Data I/O", E2 DQPc (io) "Parity Data I/O", E10 DQPf (io) "Parity Data I/O", E11 DQPb (io) "Parity Data I/O", F1 DQc (io) "Synchronous Data Input/Output", F2 DQc (io) "Synchronous Data Input/Output", F10 DQf (io) "Synchronous Data Input/Output", F11 DQf (io) "Synchronous Data Input/Output", G1 DQc (io) "Synchronous Data Input/Output", G2 DQc (io) "Synchronous Data Input/Output", G10 DQf (io) "Synchronous Data Input/Output", G11 DQf (io) "Synchronous Data Input/Output", H1 DQc (io) "Synchronous Data Input/Output", H2 DQc (io) "Synchronous Data Input/Output", H10 DQf (io) "Synchronous Data Input/Output", H11 DQf (io) "Synchronous Data Input/Output", J1 DQc (io) "Synchronous Data Input/Output", J2 DQc (io) "Synchronous Data Input/Output", J10 DQf (io) "Synchronous Data Input/Output", J11 DQf (io) "Synchronous Data Input/Output", L1 DQh (io) "Synchronous Data Input/Output", L2 DQh (io) "Synchronous Data Input/Output", L10 DQa (io) "Synchronous Data Input/Output", L11 DQa (io) "Synchronous Data Input/Output", M1 DQh (io) "Synchronous Data Input/Output", M2 DQh (io) "Synchronous Data Input/Output", M10 DQa (io) "Synchronous Data Input/Output", M11 DQa (io) "Synchronous Data Input/Output", N1 DQh (io) "Synchronous Data Input/Output", N2 DQh (io) "Synchronous Data Input/Output", N10 DQa (io) "Synchronous Data Input/Output", N11 DQa (io) "Synchronous Data Input/Output", P1 DQh (io) "Synchronous Data Input/Output", P2 DQh (io) "Synchronous Data Input/Output", P10 DQa (io) "Synchronous Data Input/Output", P11 DQa (io) "Synchronous Data Input/Output", R1 DQPd (io) "Parity Data I/O", R2 DQPh (io) "Parity Data I/O", R10 DQPa (io) "Parity Data I/O", R11 DQPe (io) "Parity Data I/O", T1 DQd (io) "Synchronous Data Input/Output", T2 DQd (io) "Synchronous Data Input/Output", T10 DQe (io) "Synchronous Data Input/Output", T11 DQe (io) "Synchronous Data Input/Output", U1 DQd (io) "Synchronous Data Input/Output", U2 DQd (io) "Synchronous Data Input/Output", U10 DQe (io) "Synchronous Data Input/Output", U11 DQe (io) "Synchronous Data Input/Output", V1 DQd (io) "Synchronous Data Input/Output", V2 DQd (io) "Synchronous Data Input/Output", V10 DQe (io) "Synchronous Data Input/Output", V11 DQe (io) "Synchronous Data Input/Output", W1 DQd (io) "Synchronous Data Input/Output", W2 DQd (io) "Synchronous Data Input/Output", W10 DQe (io) "Synchronous Data Input/Output", W11 DQe (io) "Synchronous Data Input/Output"
part C pins: D3 VSS (power) "Ground", D9 VSS (power) "Ground", E3 VDDQ (power) "Isolated Output Buffer Supply: 3.3V/2.5V", E4 VDDQ (power) "Isolated Output Buffer Supply: 3.3V/2.5V", E5 VDD (power) "3.3V/2.5V Power Supply", E6 VDD (power) "3.3V/2.5V Power Supply", E7 VDD (power) "3.3V/2.5V Power Supply", E8 VDDQ (power) "Isolated Output Buffer Supply: 3.3V/2.5V", E9 VDDQ (power) "Isolated Output Buffer Supply: 3.3V/2.5V", F3 VSS (power) "Ground", F4 VSS (power) "Ground", F5 VSS (power) "Ground", F7 VSS (power) "Ground", F8 VSS (power) "Ground", F9 VSS (power) "Ground", G3 VDDQ (power) "Isolated Output Buffer Supply: 3.3V/2.5V", G4 VDDQ (power) "Isolated Output Buffer Supply: 3.3V/2.5V", G5 VDD (power) "3.3V/2.5V Power Supply", G7 VDD (power) "3.3V/2.5V Power Supply", G8 VDDQ (power) "Isolated Output Buffer Supply: 3.3V/2.5V", G9 VDDQ (power) "Isolated Output Buffer Supply: 3.3V/2.5V", H3 VSS (power) "Ground", H4 VSS (power) "Ground", H5 VSS (power) "Ground", H7 VSS (power) "Ground", H8 VSS (power) "Ground", H9 VSS (power) "Ground", J3 VDDQ (power) "Isolated Output Buffer Supply: 3.3V/2.5V", J4 VDDQ (power) "Isolated Output Buffer Supply: 3.3V/2.5V", J5 VDD (power) "3.3V/2.5V Power Supply", J7 VDD (power) "3.3V/2.5V Power Supply", J8 VDDQ (power) "Isolated Output Buffer Supply: 3.3V/2.5V", J9 VDDQ (power) "Isolated Output Buffer Supply: 3.3V/2.5V", K5 VSS (power) "Ground", K7 VSS (power) "Ground", L3 VDDQ (power) "Isolated Output Buffer Supply: 3.3V/2.5V", L4 VDDQ (power) "Isolated Output Buffer Supply: 3.3V/2.5V", L5 VDD (power) "3.3V/2.5V Power Supply", L7 VDD (power) "3.3V/2.5V Power Supply", L8 VDDQ (power) "Isolated Output Buffer Supply: 3.3V/2.5V", L9 VDDQ (power) "Isolated Output Buffer Supply: 3.3V/2.5V", M3 VSS (power) "Ground", M4 VSS (power) "Ground", M5 VSS (power) "Ground", M7 VSS (power) "Ground", M8 VSS (power) "Ground", M9 VSS (power) "Ground", N3 VDDQ (power) "Isolated Output Buffer Supply: 3.3V/2.5V", N4 VDDQ (power) "Isolated Output Buffer Supply: 3.3V/2.5V", N5 VDD (power) "3.3V/2.5V Power Supply", N7 VDD (power) "3.3V/2.5V Power Supply", N8 VDDQ (power) "Isolated Output Buffer Supply: 3.3V/2.5V", N9 VDDQ (power) "Isolated Output Buffer Supply: 3.3V/2.5V", P3 VSS (power) "Ground", P4 VSS (power) "Ground", P5 VSS (power) "Ground", P7 VSS (power) "Ground", P8 VSS (power) "Ground", P9 VSS (power) "Ground", R3 VDDQ (power) "Isolated Output Buffer Supply: 3.3V/2.5V", R4 VDDQ (power) "Isolated Output Buffer Supply: 3.3V/2.5V", R5 VDD (power) "3.3V/2.5V Power Supply", R6 VDD (power) "3.3V/2.5V Power Supply", R7 VDD (power) "3.3V/2.5V Power Supply", R8 VDDQ (power) "Isolated Output Buffer Supply: 3.3V/2.5V", R9 VDDQ (power) "Isolated Output Buffer Supply: 3.3V/2.5V", T3 VSS (power) "Ground", T9 VSS (power) "Ground"
part D pins: B5 NC "not connect", C5 NC "not connect", C7 NC "not connect", D4 NC "not connect", D5 NC "not connect", D7 NC "not connect", D8 NC "not connect", F6 NC "not connect", G6 NC "not connect", H6 NC "not connect", J6 NC "not connect", K1 NC "not connect", K2 NC "not connect", K4 NC "not connect", K8 NC "not connect", K9 NC "not connect", K10 NC "not connect", K11 NC "not connect", L6 NC "not connect", M6 NC "not connect", N6 NC "not connect", T4 NC "not connect", T5 NC "not connect", T7 NC "not connect", T8 NC "not connect", U3 NC "not connect", U5 NC "not connect", U7 NC "not connect", U9 NC "not connect"